# EAGLE library part DS26C32ATM (library DS26C32ATM)
Line Receiver
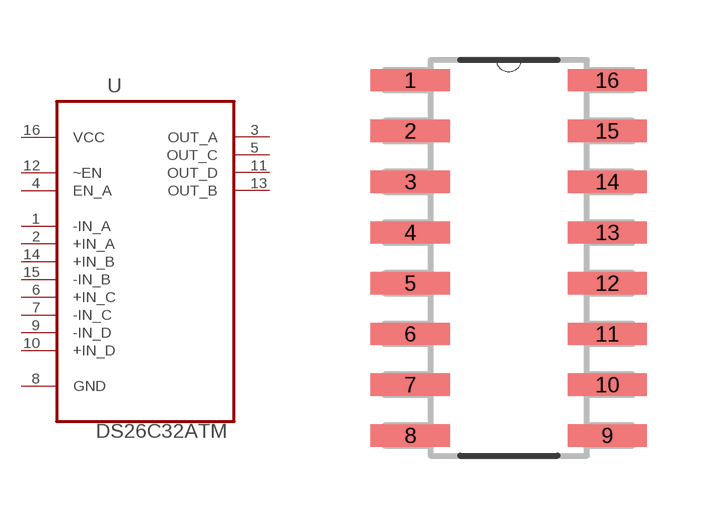
[diagram p0: symbol with the pads of SOIC127P600X175-16N; footprint SOIC127P600X175-16N]

Designator prefix U

## DS26C32ATM (Availability: Unavailable; Description: 0/4 Receiver RS422, RS423 16-SOIC; MF: Texas Instruments; MP: DS26C32ATM; Package: SOIC-16 Texas Instruments; Price: None)  [SOIC127P600X175-16N]
1  -IN_A  in
2  +IN_A  in
3  OUT_A  out
4  EN_A  in
5  OUT_C  out
6  +IN_C  in
7  -IN_C  in
8  GND  pas
9  -IN_D  in
10  +IN_D  in
11  OUT_D  out
12  ~EN  in
13  OUT_B  out
14  +IN_B  in
15  -IN_B  in
16  VCC  pwr

## Footprint SOIC127P600X175-16N (pad centres in mm)
smd 1.981 x 0.559: 1 -2.464,4.445; 2 -2.464,3.175; 3 -2.464,1.905; 4 -2.464,0.635; 5 -2.464,-0.635; 6 -2.464,-1.905; 7 -2.464,-3.175; 8 -2.464,-4.445; 9 2.464,-4.445; 10 2.464,-3.175; 11 2.464,-1.905; 12 2.464,-0.635; 13 2.464,0.635; 14 2.464,1.905; 15 2.464,3.175; 16 2.464,4.445